# Altium schematic symbol library ESDSupressorDual.Schlib: 1 symbol
Pins are listed as number, name and electrical type; pins without a type are passive.

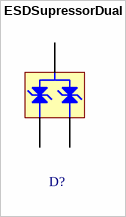
[diagram p0: symbol ESDSupressorDual]

## ESDSupressorDual
designator D?
signal-integrity model ESD Suppressor
pins: 1 *, 2 *, 3 *